# Altium footprint library HM-TRP-433S.PcbLib: 1 footprints
Each footprint in its own frame and in the unit in brackets; x right, y up, seen from the top. Pads: shape width x height; smd on the part's side, far side on the other; paste and mask are expansions set on the pad; w line width, h text height; cw(c..) or ccw(c..) is an arc to the next point about the centre after c.
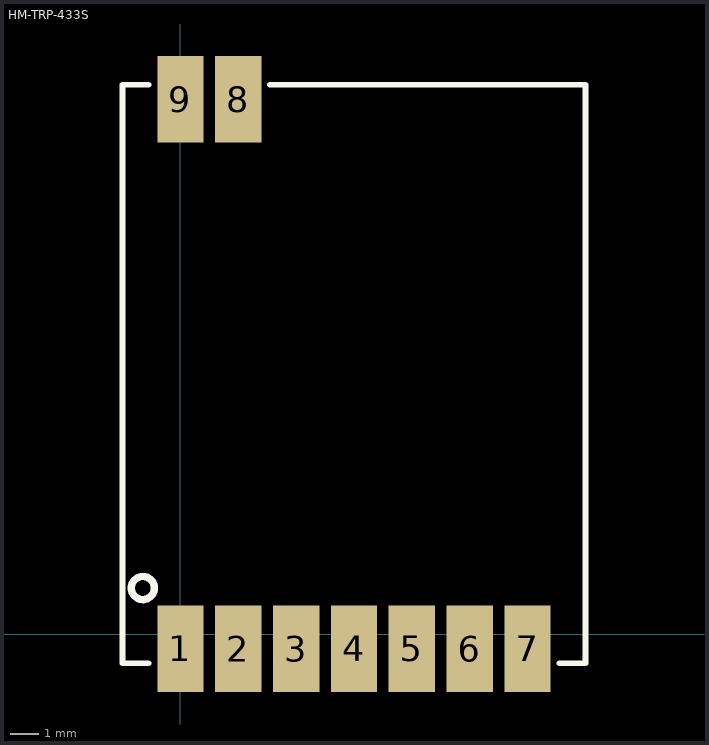
[diagram p0: the footprint, top view; thin cyan lines are the x and y axes]

## HM-TRP-433S [mm]
pads (9):
  rect 1.6x3 smd: 1(0,-0.5) 2(2,-0.5) 3(4,-0.5) 4(6,-0.5) 5(8,-0.5) 6(10,-0.5) 7(12,-0.5) 8(2,18.5) 9(0,18.5)
Top Overlay:
  circle w0.254: c-1.3,1.6 r0.4
  lines w0.2: -1.1,-1 -2,-1 -2,19 -1.1,19 ; 3.1,19 14,19 14,0.7 14,-1 13.1,-1
3D body: height 2, standoff -0.01, extent -2,-1 14,19